# Altium schematic symbol library BAT63-07W.SchLib: 1 symbol
Pins are listed as number, name and electrical type; pins without a type are passive.

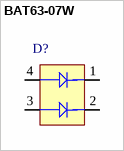
[diagram p0: symbol BAT63-07W]

## BAT63-07W
designator D?
Dual Silicon Schottky Diode, 100 mA IF Max, PG-SOT343-4, Green; Manufacturer: Infineon; PartNumber: BAT63-07W; CT (typ): 0.65 pF; Green: yes; Group: RF Signal Detection + Power Leveling; IF (max): 100 mA; VF (typ): 0.19 V; VR (max): 3 V; DatasheetVersion: Jun-2011; PackageReference: PG-SOT343-4; PackageDescription: 4-Pin Small Outline Transistor Package, 1.25 x 2 mm Body; Supplier 1: Mouser; Supplier Part Number 1: N/A; Configuration: Dual; Halogen-free: yes; Mounting Technology: Surface Mount; ComponentLink1Description: Manufacturer URL; ComponentLink1URL: http://www.infineon.com/; ComponentLink2Description: Datasheet; ComponentLink2URL: http://www.infineon.com/dgdl/bat63series.pdf?folderId=db3a304314dca389011518104e5d0df2&fileId=db3a304314dca38901151817843c0df4&location=en.Products.RF.RF_Mixer___Detector_Schottky_Diodes.DATASHEET.bat63series.pdf; ComponentLink3Description: Package Specification; ComponentLink3URL: http://www.infineon.com/dgdl/SOT343-Package_Overview.pdf?folderId=db3a30431936bc4b0119535155343cba&fileId=db3a30431936bc4b0119535a9f393cd3
footprint INF-PG-SOT343-4_V (SOT343, 4-Leads, Body 2x1.25 mm)
pins: 1 K1, 2 K2, 3 A2, 4 A1